# Altium schematic symbol library 150080RS75000.SchLib: 1 symbol
Pins are listed as number, name and electrical type; pins without a type are passive.

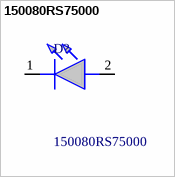
[diagram p0: symbol 150080RS75000]

## 150080RS75000
designator D?
WL-SMCW SMT Mono-Color Chip LED Waterclear 0805, Red Typ.(@20mA): 625nm, 150mcd, 2.0V, 140 AlInGaP; Manufacturer_Name: Wurth Elektronik; Geometry.Height: 0.7mm; Manufacturer_Part_Number: 150080RS75000; Mouser Part Number: 710-150080RS75000; Mouser Price/Stock: https://www.mouser.co.uk/ProductDetail/Wurth-Elektronik/150080RS75000?qs=LlUlMxKIyB2jdCo7bnfgew%3D%3D; Arrow Part Number: *; Arrow Price/Stock: *; Datasheet Link: https://www.we-online.com/components/products/download/Download_3D_150080RS75000+%28rev1%29.pdf
footprint LEDC2012X70N
pins: 1 K, 2 A